# EAGLE library part BQ27410 (library TuansLib)
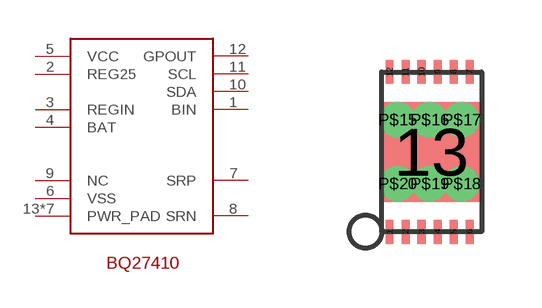
[diagram p14: symbol with the pads of SON_DRZ_12PIN; footprint SON_DRZ_12PIN]

Designator prefix -

## BQ27410  [SON_DRZ_12PIN]
1  BIN
2  REG25
3  REGIN
4  BAT
5  VCC
6  VSS
7  SRP
8  SRN
9  NC
10  SDA
11  SCL
12  GPOUT
13  PWR_PAD
P$15  PWR_PAD
P$16  PWR_PAD
P$17  PWR_PAD
P$18  PWR_PAD
P$19  PWR_PAD
P$20  PWR_PAD

## Footprint SON_DRZ_12PIN (pad centres in mm)
smd 0.2 x 0.6: 1 0.2,0; 2 0.6,0; 3 1,0; 4 1.4,0; 5 1.8,0; 6 2.2,0; 7 2.2,4; 8 1.8,4; 9 1.4,4; 10 1,4; 11 0.6,4; 12 0.2,4
smd 2.5 x 2.5: 13 1.25,2
drill 0.381: P$15 0.4,2.8; P$16 1.2,2.8; P$17 2,2.8; P$18 2,1.2; P$19 1.2,1.2; P$20 0.4,1.2